# EAGLE library part 6180XX25023_61801525023 (library 618015233821_Eagle_WR-DSUB_rev20a)
WR-DSUB Male PCB Connector Kind Properties Quality Class:3 as per IEC 60 603-13 Gender:Male Type:Straight Insulator Material:PBT Insulator Flammability Rating:UL94 V-0 Color:White Contact Material:Copper Alloy Contact Plating:Gold Contact Type:Stamped Shielding Material:Steel Shielding Plating:Tin General Information Operating Temperature:-55 up to +105 °C Compliance:RoHS Electrical Properties IR1:3 A Working Voltage:125 V (AC) Withstanding Voltage:1000 V (AC) Contact Resistance:30 mΩ <https://www.we-online.com/catalog/media/o33086v209%20Family_I-O_DSUB_PCB_Male_6180xx25023_pf2.jpg> Details see: https://www.we-online.com/catalog/en/DSUB_MALE_PCB_CONNECTOR_6180XX25023/ Updated by Yingchun, Shan 2020-01-08 2020 (C) Würth Elektronik
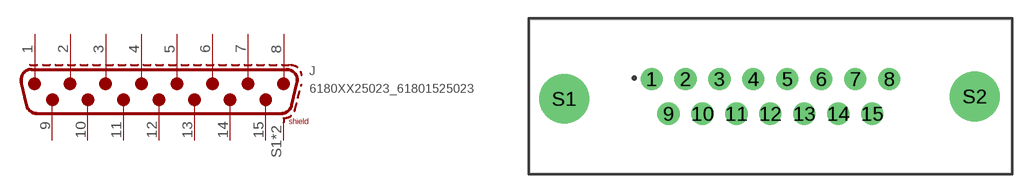
[diagram p1: symbol with the pads of 61801525023; footprint 61801525023]

Designator prefix J

## 6180XX25023_61801525023 (DATASHEET-URL: https://www.we-online.com/catalog/datasheet/61801525023.pdf; GENDER: Male; MATES-WITH: WR-DSUB 10.30 mm Female Angled PCB Connector w. Hex Screw and w/o Hex/ Screw/8.08 mm Female Angled PCB Connector w. Hex Screw and w/o Hex/ Screw/Female PCB Connector w. Hex Screw and Female PCB Connector/WR-DSUB Female Solder Bucket; PART-NUMBER: 61801525023; PINS: 15; TYPE: Straight; WE-NUMBER: 61801525023)  [61801525023]
1  1
2  2
3  3
4  4
5  5
6  6
7  7
8  8
9  9
10  10
11  11
12  12
13  13
14  14
15  15
S1  SHIELD
S2  SHIELD

## Footprint 61801525023 (pad centres in mm)
WR-DSUB Male PCB Connector, 15 Pins
drill 1.2: 1 -9.7,1.42; 2 -6.93,1.42; 3 -4.16,1.42; 4 -1.39,1.42; 5 1.38,1.42; 6 4.15,1.42; 7 6.92,1.42; 8 9.69,1.42; 9 -8.315,-1.42; 10 -5.545,-1.42; 11 -2.775,-1.42; 12 -0.005,-1.42; 13 2.765,-1.42; 14 5.535,-1.42; 15 8.305,-1.42
drill 3.05: S1 -16.82,-0.2; S2 16.66,0